# Altium schematic symbol library lprs.SCHLIB: 3 symbols
Pins are listed as number, name and electrical type; pins without a type are passive.

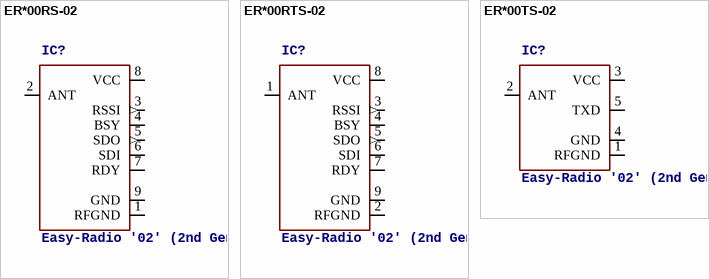
[diagram p0: symbols ER*00RS-02 to ER*00TS-02]

## ER*00RS-02
designator IC?, comment Easy-Radio '02' (2nd Generation Modules) Receiver   Source: http://www.lprs.co.uk/pdf_directory/2386mylprs1132229147er-datasheet-2.3-sept-05.pdf
MPN: ER400RS; MPN: ER900RS; OC_FARNELL: 5096522; OC_NEWARK: 13J9292; OC_FARNELL: 5096546; OC_NEWARK: 13J9297
footprint SIL9
pins: 1 RFGND, 2 ANT, 3 RSSI (out), 4 BSY, 5 SDO (out), 6 SDI, 7 RDY, 8 VCC (power), 9 GND (power)

## ER*00RTS-02
designator IC?, comment Easy-Radio '02' (2nd Generation Modules) Transceiver   Source: http://www.lprs.co.uk/pdf_directory/2386mylprs1132229147er-datasheet-2.3-sept-05.pdf
MPN: ER400RS; MPN: ER900RS; OC_FARNELL: 5096522; OC_NEWARK: 13J9292; OC_FARNELL: 5096546; OC_NEWARK: 13J9297
footprint SIL9
pins: 1 ANT, 2 RFGND, 3 RSSI (out), 4 BSY, 5 SDO (out), 6 SDI, 7 RDY, 8 VCC (power), 9 GND (power)

## ER*00TS-02
designator IC?, comment Easy-Radio '02' (2nd Generation Modules) Transmitter   Source: http://www.lprs.co.uk/pdf_directory/2386mylprs1132229147er-datasheet-2.3-sept-05.pdf
MPN: ER400TS; MPN: ER900TS; OC_FARNELL: 5096510; OC_NEWARK: 13J9294; OC_FARNELL: 5096534; OC_NEWARK: 13J9299
footprint SIL5
pins: 1 RFGND, 2 ANT, 3 VCC (power), 4 GND (power), 5 TXD